# EAGLE library part DAC8565 (library uo_C_SE_Library)
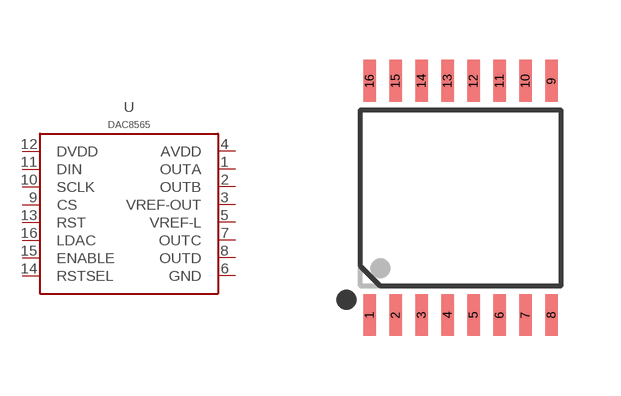
[diagram p3: symbol with the pads of TSSOP-16; footprint TSSOP-16]

Designator prefix U

## DAC8565 (MANUFACTURERPARTNUMBER: DAC8565IAPW)  [TSSOP-16]
1  OUTA
2  OUTB
3  VREF-OUT
4  AVDD
5  VREF-L
6  GND
7  OUTC
8  OUTD
9  CS
10  SCLK
11  DIN
12  DVDD
13  RST
14  RSTSEL
15  ENABLE
16  LDAC

## Footprint TSSOP-16 (pad centres in mm)
smd 0.32 x 1.05: 1 -2.275,-2.925; 2 -1.625,-2.925; 3 -0.975,-2.925; 4 -0.325,-2.925; 5 0.325,-2.925; 6 0.975,-2.925; 7 1.625,-2.925; 8 2.275,-2.925; 9 2.275,2.925; 10 1.625,2.925; 11 0.975,2.925; 12 0.325,2.925; 13 -0.325,2.925; 14 -0.975,2.925; 15 -1.625,2.925; 16 -2.275,2.925